# Altium schematic symbol library LSM6DSRXTR.SchLib: 1 symbol
Pins are listed as number, name and electrical type; pins without a type are passive.

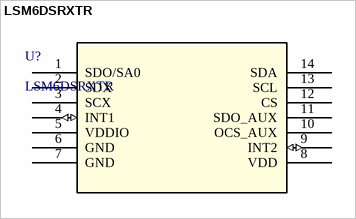
[diagram p0: symbol LSM6DSRXTR]

## LSM6DSRXTR
designator U?
6-axis IMU (inertial measurement unit) with embedded machine learning core: always-on 3-axis accelerometer and 3-axis gyroscope; Manufacturer_Name: STMicroelectronics; Copyright: Copyright (C) 2025 Ultra Librarian. All rights reserved.; Manufacturer_Part_Number: LSM6DSRXTR; RefDes: RefDes; Type: Type
footprint LGA-14L_STM
pins: 1 SDO/SA0, 2 SDX, 3 SCX, 4 INT1 (io), 5 VDDIO (power), 6 GND (power), 7 GND (power), 8 VDD (power), 9 INT2 (io), 10 OCS_AUX, 11 SDO_AUX, 12 CS, 13 SCL, 14 SDA